# Altium footprint library PA2754NL.PcbLib: 1 footprints
Each footprint in its own frame and in the unit in brackets; x right, y up, seen from the top. Pads: shape width x height; smd on the part's side, far side on the other; paste and mask are expansions set on the pad; w line width, h text height; cw(c..) or ccw(c..) is an arc to the next point about the centre after c.
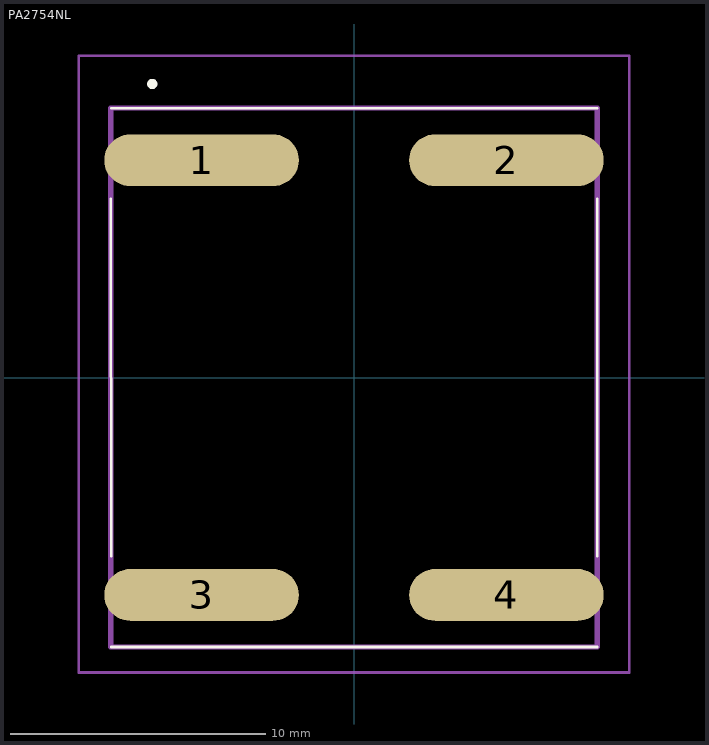
[diagram p0: the footprint, top view; thin cyan lines are the x and y axes]

## PA2754NL [mm]
pads (4):
  oval 7.62x2.03 smd: 1(-5.97,8.51) 2(5.97,8.51) 3(-5.97,-8.51) 4(5.97,-8.51)
Top Overlay:
  lines w0.1: -9.525,7 -9.5,-7 ; -9.5,-10.55 9.525,-10.55 ; -9.5,10.55 9.525,10.55 ; 9.525,-7 9.525,7
  lines w0.2: -8,11.5 -8,11.5 ; -8,11.5 ccw(c-7.9,11.5) -7.8,11.5 ; -8,11.5 cw(c-7.9,11.5) -7.8,11.5 ; -7.8,11.5 -7.8,11.5
Mechanical 15:
  lines w0.2: -9.525,-10.55 9.525,-10.55 9.525,10.55 -9.525,10.55 -9.525,-10.55
Mechanical 20:
  lines w0.1: -10.78,-11.55 10.78,-11.55 10.78,12.6 -10.78,12.6 -10.78,-11.55